# EAGLE library part HEADER8 (library Custom_new)
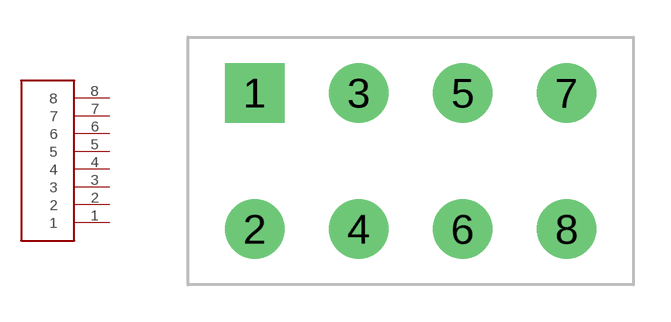
[diagram p4: symbol with the pads of 8PINVALULOK; footprint 8PINVALULOK]

Designator prefix -

## HEADER8DEFAULT  [8PINVALULOK]
1  1
2  2
3  3
4  4
5  5
6  6
7  7
8  8

## Footprint 8PINVALULOK (pad centres in mm)
drill 1.6 square: 1 0,5.5
drill 1.6: 2 0,0; 3 4.2,5.5; 4 4.2,0; 5 8.4,5.5; 6 8.4,0; 7 12.6,5.5; 8 12.6,0